# EAGLE library part MCP16251/2(6PIN) (library Gekkio-microchip)
Low Quiescent Current, PFM/PWM Synchronous Boost Regulator with True Output Disconnect or Input/Output Bypass Option
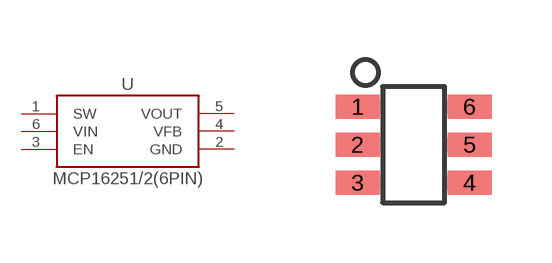
[diagram p4: symbol with the pads of SOT-23(CH/CHY/OT); footprint SOT-23(CH/CHY/OT)]

Designator prefix U

## MCP16251/2(6PIN)CH  [SOT-23(CH/CHY/OT)]
1  SW  pas
2  GND  pwr
3  EN  in
4  VFB  pas
5  VOUT  pwr
6  VIN  pwr

## Footprint SOT-23(CH/CHY/OT) (pad centres in mm)
SOT-23 (CH/CHY/OT) 6-Lead Plastic Small Outline Transistor (OT) [SOT-23] Not tested! Source: Microchip Packaging Specification, revision CE
smd 1.1 x 0.6: 1 -1.4,0.95; 2 -1.4,0; 3 -1.4,-0.95; 4 1.4,-0.95; 5 1.4,0; 6 1.4,0.95